# EAGLE library part LTC3775 (library PowerProducts)
High Frequency Synchronous Step-Down Voltage Mode DC/DC Controller
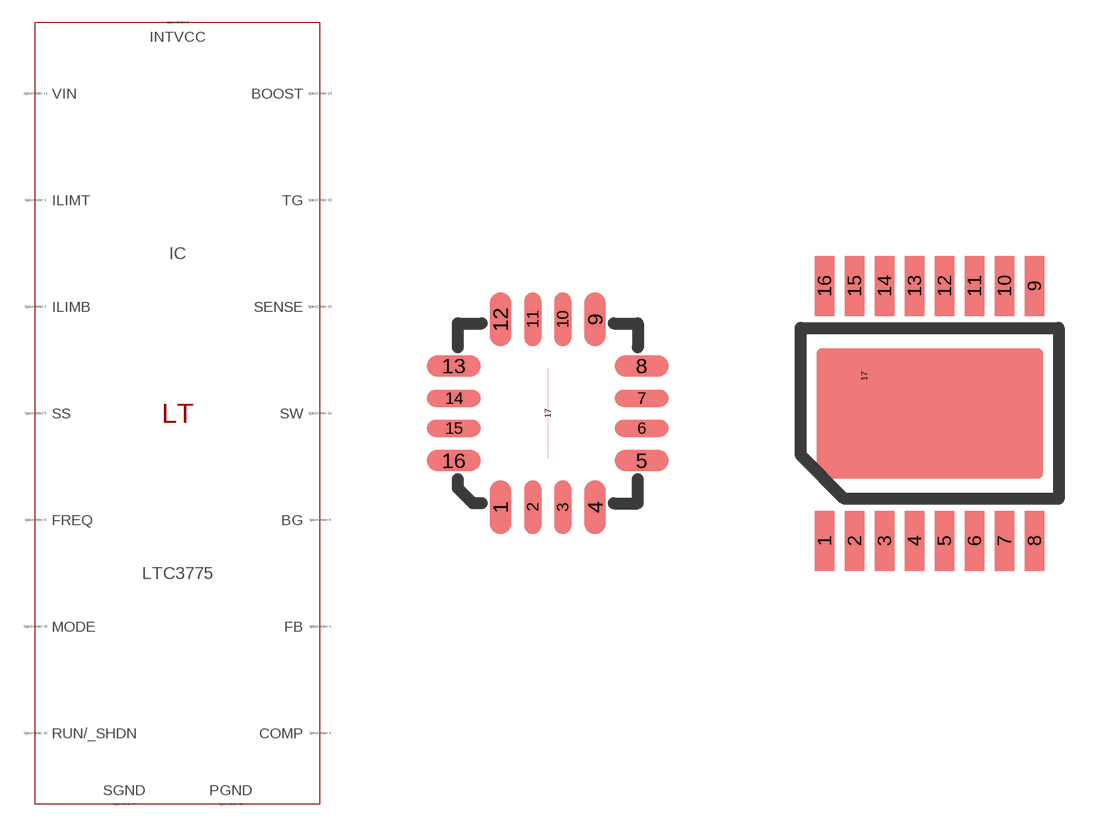
[diagram p321: symbol with the pads of QFN16(UD); footprints QFN16(UD), MSOP16(MSE)]

Designator prefix IC

## LTC3775UD (SPICEMODEL: LTC3775.sub; SPICEPREFIX: X; VALUE2: LTC3775)  [QFN16(UD)]
1  ILIMT  pas
2  ILIMB  pas
3  FB  pas
4  COMP  pas
5  SS  pas
6  FREQ  pas
7  SGND  pas
8  BG  pas
9  INTVCC  pas
10  SENSE  pas
11  VIN  pas
12  SW  pas
13  TG  pas
14  BOOST  pas
15  MODE  pas
16  RUN/_SHDN  pas
17  PGND  pas

## LTC3775 (SPICEMODEL: LTC3775.sub; SPICEPREFIX: X; VALUE2: LTC3775)  [MSOP16(MSE)]
1  MODE  pas
2  RUN/_SHDN  pas
3  ILIMT  pas
4  ILIMB  pas
5  FB  pas
6  COMP  pas
7  SS  pas
8  FREQ  pas
9  SGND  pas
10  BG  pas
11  INTVCC  pas
12  SENSE  pas
13  VIN  pas
14  SW  pas
15  TG  pas
16  BOOST  pas
17  PGND  pas

## Footprint QFN16(UD) (pad centres in mm)
Package generated from: QFN16(UD).asc (!PADS-POWERPCB-V9.3-BASIC! DESIGN DATABASE ASCII FILE 1.0) with :import-pads-powerpcb-v5.ulp Version 1.0.1 at 04.10.2012 14:11:23
smd 0.54 x 1.35: 1 -1.185,-2.348; 4 1.185,-2.348; 9 1.185,2.348; 12 -1.185,2.348
smd 0.42 x 1.35: 2 -0.375,-2.348; 3 0.375,-2.348; 10 0.375,2.348; 11 -0.375,2.348
smd 1.35 x 0.54: 5 2.348,-1.185; 8 2.348,1.185; 13 -2.348,1.185; 16 -2.348,-1.185
smd 1.35 x 0.42: 6 2.348,-0.375; 7 2.348,0.375; 14 -2.348,0.375; 15 -2.348,-0.375
smd 0 x 2.25: 17 0,0

## Footprint MSOP16(MSE) (pad centres in mm)
Package generated from: MSOP16(MSE).asc (!PADS-POWERPCB-V9.3-BASIC! DESIGN DATABASE ASCII FILE 1.0) with :import-pads-powerpcb-v5.ulp Version 1.0.1 at 04.10.2012 14:11:19
smd 0.495 x 1.5: 1 -2.625,-3.188; 2 -1.875,-3.188; 3 -1.125,-3.188; 4 -0.375,-3.188; 5 0.375,-3.188; 6 1.125,-3.188; 7 1.875,-3.188; 8 2.625,-3.188; 9 2.625,3.188; 10 1.875,3.188; 11 1.125,3.188; 12 0.375,3.188; 13 -0.375,3.188; 14 -1.125,3.188; 15 -1.875,3.188; 16 -2.625,3.188
smd 0 x 0.525: 17 -1.635,0.93